# EAGLE library part 23LCV1024 (library 31813 Neutron Readout PCB)
128K X 8 Serial SRAM with battery backup
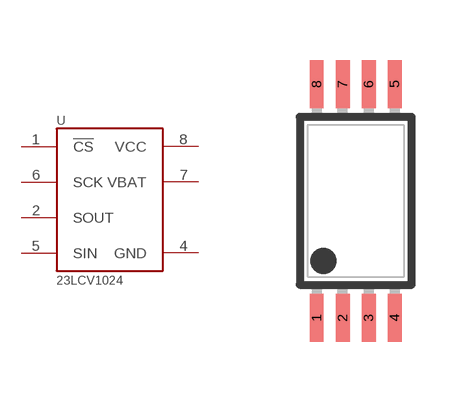
[diagram p2: symbol with the pads of TSSOP8; footprint TSSOP8]

Designator prefix U

## 23LCV1024  [TSSOP8]
1  !CS
2  SOUT
4  GND
5  SIN
6  SCK
7  VBAT
8  VCC

## Footprint TSSOP8 (pad centres in mm)
Thin Shrink Small Outline Plastic 8
smd 0.35 x 1.2: 1 -0.975,-2.925; 2 -0.325,-2.925; 3 0.325,-2.925; 4 0.975,-2.925; 5 0.975,2.925; 6 0.325,2.925; 7 -0.325,2.925; 8 -0.975,2.925